# EAGLE library part DS2408 (library sensor_floor)
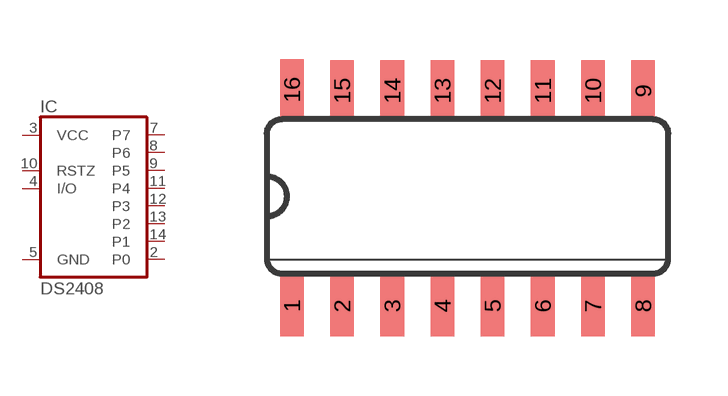
[diagram p0: symbol with the pads of SO16; footprint SO16]

Designator prefix IC

## DS2408S  [SO16]
2  P0  oc
3  VCC  pwr
4  I/O  oc
5  GND  pwr
7  P7  oc
8  P6  oc
9  P5  oc
10  RSTZ  oc
11  P4  oc
12  P3  oc
13  P2  oc
14  P1  oc

## Footprint SO16 (pad centres in mm)
Small Outline package 150 mil
smd 0.6 x 1.55: 1 -4.445,-2.773; 2 -3.175,-2.773; 3 -1.905,-2.773; 4 -0.635,-2.773; 5 0.635,-2.773; 6 1.905,-2.773; 7 3.175,-2.773; 8 4.445,-2.773; 9 4.445,2.673; 10 3.175,2.673; 11 1.905,2.673; 12 0.635,2.673; 13 -0.635,2.673; 14 -1.905,2.673; 15 -3.175,2.673; 16 -4.445,2.7